# EAGLE library part AD711JRZ-REEL (library AD711JRZ-REEL)
AD711JRZ-REEL, Operational Amplifier BiFET 4MHz Rail-Rail, 8-Pin SOIC Source: Datasheet <http://www.analog.com/media/en/technical-documentation/data-sheets/AD711.pdf>
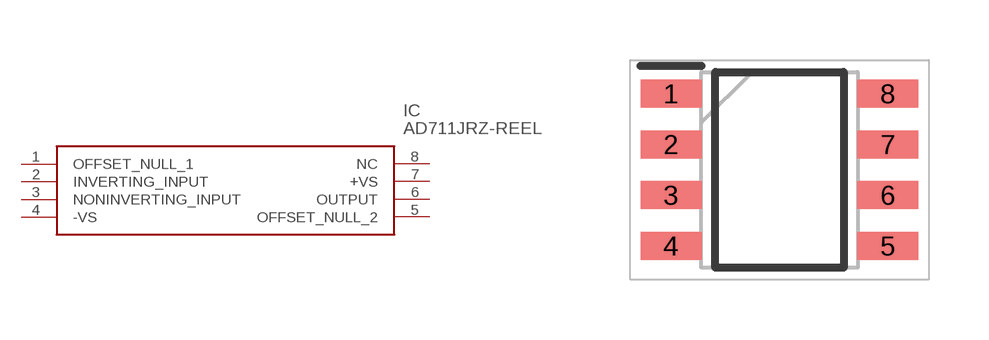
[diagram p0: symbol with the pads of SOIC127P600X175-8N; footprint SOIC127P600X175-8N]

Designator prefix IC

## AD711JRZ-REEL (Description: AD711JRZ-REEL, Operational Amplifier BiFET 4MHz Rail-Rail, 8-Pin SOIC; Height: 1.75mm; Manufacturer_Name: Analog Devices; Manufacturer_Part_Number: AD711JRZ-REEL; Mouser_Part_Number: 584-AD711JRZ-R; Mouser_Price-Stock: https://www.mouser.co.uk/ProductDetail/Analog-Devices/AD711JRZ-REEL?qs=NmRFExCfTkE2B2XETlmmwA%3D%3D)  [SOIC127P600X175-8N]
1  OFFSET_NULL_1
2  INVERTING_INPUT  in
3  NONINVERTING_INPUT  in
4  -VS
5  OFFSET_NULL_2
6  OUTPUT  out
7  +VS
8  NC  nc

## Footprint SOIC127P600X175-8N (pad centres in mm)
RN-8 (SOIC)
smd 1.525 x 0.7: 1 -2.712,1.905; 2 -2.712,0.635; 3 -2.712,-0.635; 4 -2.712,-1.905; 5 2.712,-1.905; 6 2.712,-0.635; 7 2.712,0.635; 8 2.712,1.905